# Altium schematic symbol library LED RED SMD 0603.Schlib: 1 symbol
Pins are listed as number, name and electrical type; pins without a type are passive.

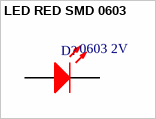
[diagram p0: symbol LED RED SMD 0603]

## LED RED SMD 0603
designator D?, comment 0603 2V
0603 red led alingap 631nm-639nm water clear 18-180mcd 130d
footprint 0603 - LED2
pins: 1 A, 2 K